# Altium footprint library NeoPixel.PcbLib: 3 footprints
Each footprint in its own frame and in the unit in brackets; x right, y up, seen from the top. Pads: shape width x height; smd on the part's side, far side on the other; paste and mask are expansions set on the pad; w line width, h text height; cw(c..) or ccw(c..) is an arc to the next point about the centre after c.
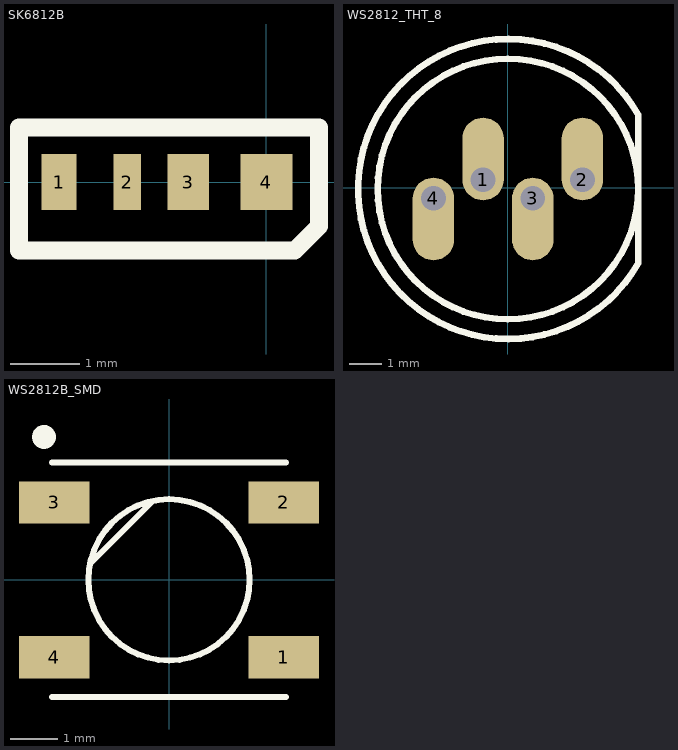
[diagram p0: the footprints below, top view; thin cyan lines are the x and y axes]

## SK6812B [mm] "SMD size 4020"
pads (4):
  rect 0.5x0.8 smd: 1(-2.979,0)
  rect 0.4x0.8 smd: 2(-1.999,0)
  rect 0.6x0.8 smd: 3(-1.119,0)
  rect 0.75x0.8 smd: 4(0.006,0)
Top Overlay:
  lines w0.254: -3.556,-0.985 -3.556,0.784 0.762,0.784 0.762,-0.635 0.412,-0.985 -0.494,-0.985 -3.556,-0.985
3D body "SK6812B 4020 v3.step": height 2, standoff 0, extent -3.397,-0.865 0.603,0.635

## WS2812_THT_8 [mil]
pads (4):
  oval 50x100 hole 30 copper offset 0,25: 1(-30,10) 2(90,10)
  oval 50x100 hole 30 copper offset 0,-25: 3(30,-12.5) 4(-90,-12.5)
Top Overlay:
  circle w8: c0,-1.25 r157.48
  lines w8: 157.48,-91.01 cw(c0.08,-1.25) 157.48,88.51 157.48,-91.01
Top Solder:
  drawing of 4 lines, arcs and shapes, not listed
Bottom Solder:
  region: 90.06,-5.63 92.96,-5.7 98.38,-3.6 102.58,0.41 104.93,5.72 105,8.63 110,8.51 110.1,12.58 107.17,20.19 101.54,26.09 94.08,29.38 90.01,29.47 85.99,29.41 78.6,26.22 73,20.45 70.03,12.97 70.1,8.94 70.14,5.02 73.21,-2.21 78.81,-7.72 86.09,-10.66 90.02,-10.63
  region: -29.94,-5.63 -27.04,-5.7 -21.62,-3.6 -17.41,0.41 -15.07,5.72 -15,8.63 -10,8.51 -9.9,12.58 -12.83,20.19 -18.46,26.09 -25.92,29.38 -29.99,29.47 -34.01,29.41 -41.4,26.22 -47,20.45 -49.97,12.97 -49.9,8.94 -49.86,5.02 -46.79,-2.21 -41.19,-7.72 -33.91,-10.66 -29.98,-10.63
  region: 30.06,-28.13 32.96,-28.2 38.38,-26.1 42.59,-22.09 44.93,-16.78 45,-13.87 50,-13.99 50.1,-9.92 47.17,-2.31 41.54,3.59 34.08,6.88 30.01,6.97 25.99,6.91 18.6,3.72 12.99,-2.05 10.03,-9.53 10.1,-13.56 10.14,-17.48 13.21,-24.71 18.81,-30.22 26.09,-33.16 30.02,-33.13
  region: -89.94,-28.13 -87.04,-28.2 -81.62,-26.1 -77.41,-22.09 -75.07,-16.78 -75,-13.87 -70,-13.99 -69.9,-9.92 -72.83,-2.31 -78.46,3.59 -85.92,6.88 -89.99,6.97 -94.01,6.91 -101.4,3.72 -107,-2.05 -109.97,-9.53 -109.9,-13.56 -109.86,-17.48 -106.79,-24.71 -101.19,-30.22 -93.91,-33.16 -89.98,-33.13
Mechanical 7:
  text "DOUT" at 90,-21.25 h20.4
  text "-" at 30,23.75 h27.2
  text "DIN" at -90,23.75 h20.4
  text "+" at -30,-26.25 h27.2
3D body "LED.step": height 433.07, standoff 0, extent -177.17,-178.22 153.54,175.95

## WS2812B_SMD [mm]
pads (4):
  rect 1.5x0.9 smd: 1(2.45,-1.65) 2(2.45,1.65) 3(-2.45,1.65) 4(-2.45,-1.65)
Top Overlay:
  circle w0.254: c-2.667,3.048 r0.127
  circle w0.127: c0,0 r1.72
  lines w0.127: -2.5,-2.5 2.5,-2.5 ; -2.5,2.5 -1.6,2.5 2.5,2.5 ; -1.651,0.381 -0.381,1.651
3D body "WS2812B--3DModel-STEP-510211.STEP": height 1.62, standoff 0, extent -2.7,-2.5 2.7,2.5